# Altium footprint library BrushlessDriver.PcbLib: 24 footprints (part 1 of 2)
Each footprint in its own frame and in the unit in brackets; x right, y up, seen from the top. Pads: shape width x height; smd on the part's side, far side on the other; paste and mask are expansions set on the pad; w line width, h text height; cw(c..) or ccw(c..) is an arc to the next point about the centre after c.
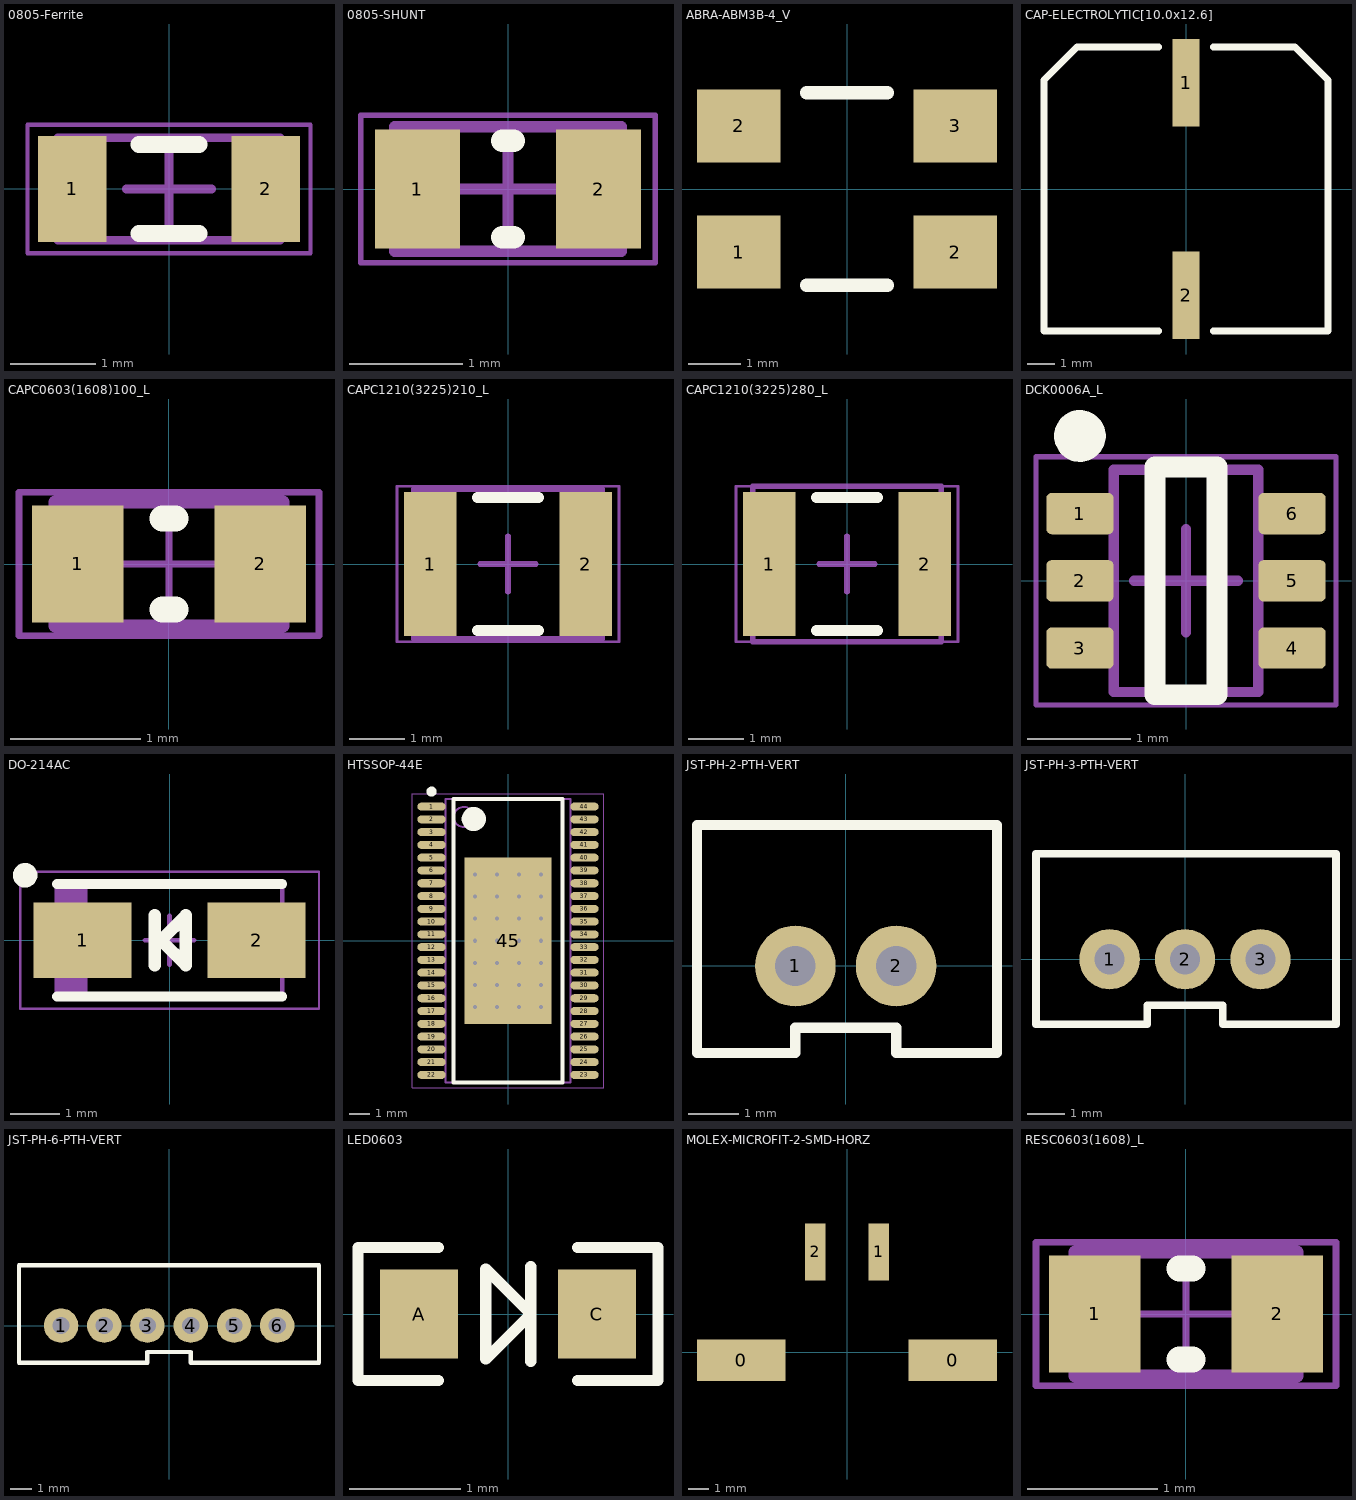
[diagram p0: the footprints below, top view; thin cyan lines are the x and y axes]

## 0805-Ferrite [mm] "Chip Inductor, 2-Leads, Body 2.60x1.20mm, IPC High Density"
height 0.6
pads (2):
  rect 0.8x1.24 smd: 1(-1.13,0) 2(1.13,0)
Top Overlay:
  lines w0.2: -0.35,-0.52 0.35,-0.52 ; -0.35,0.52 0.35,0.52
Mechanical 13:
  lines w0.1: -1.3,-0.6 -1.3,0.6 1.3,0.6 1.3,-0.6 -1.3,-0.6
Mechanical 15:
  lines w0.05: -1.65,-0.75 -1.65,0.75 1.65,0.75 1.65,-0.75 -1.65,-0.75
  lines w0.1: -0.5,0 0.5,0 ; 0,-0.5 0,0.5
3D body "INDC2612X06L.step": height 0.6, standoff 0, extent -1.3,-0.6 1.3,0.6

## 0805-SHUNT [mm] "Chip Resistor, 2-Leads, Body 2.00x1.10mm, IPC High Density"
height 0.32
pads (2):
  rect 0.75x1.05 smd: 1(-0.8,0) 2(0.8,0)
Top Overlay:
  lines w0.2: -0.05,-0.425 0.05,-0.425 ; -0.05,0.425 0.05,0.425
Mechanical 13:
  lines w0.1: -1,-0.55 1,-0.55 1,0.55 -1,0.55 -1,-0.55
Mechanical 15:
  lines w0.05: -1.3,-0.65 1.3,-0.65 1.3,0.65 -1.3,0.65 -1.3,-0.65
  lines w0.1: -0.5,0 0.5,0 ; 0,-0.5 0,0.5
3D body "RESC2011X03L.step": height 0.32, standoff 0, extent -1,-0.55 1,0.55

## ABRA-ABM3B-4_V [mil] "SMT Crystal, 4-Leads, Body 5.2x3.4mm"
pads (4):
  rect 63x55 smd: 1(-81.5,-47.5) 2(-81.5,47.5) 2(81.5,-47.5) 3(81.5,47.5)
Top Overlay:
  lines w10: -30.5,-72.5 30.5,-72.5 ; -30.5,72.5 30.5,72.5
3D body: height 39.37, standoff 0, extent -114.46,-46.87 113.11,46.73
3D body: height 19.68, standoff 0, extent -97.83,24.91 -62.28,51.12
3D body: height 19.68, standoff 0, extent 67.17,24.91 102.72,51.12
3D body: height 19.68, standoff 0, extent -103.01,-51.67 -67.46,-25.46
3D body: height 19.68, standoff 0, extent 62.19,-52.22 97.74,-26.01

## CAP-ELECTROLYTIC[10.0x12.6] [mm]
pads (2):
  rect 1x3.2 smd: 1(0,3.9) 2(0,-3.9)
Top Overlay:
  lines w0.254: -1,-5.2 -5.2,-5.2 -5.2,4 -4,5.2 -1,5.2 ; 1,-5.2 5.2,-5.2 5.2,4 4,5.2 1,5.2
3D body "NICHICON_UWT1H221MNL1GS.STEP": height 10.2, standoff 0, extent -5.2,-5.451 5.1,5.449

## CAPC0603(1608)100_L [mm] "Chip Capacitor, Body 1.6x0.8mm, Height 1.0mm, IPC High Density"
height 1
pads (2):
  rect 0.7x0.9 smd: 1(-0.7,0) 2(0.7,0)
Top Overlay:
  lines w0.2: -0.05,-0.35 0.05,-0.35 ; -0.05,0.35 0.05,0.35
Mechanical 13:
  lines w0.1: -0.875,-0.475 -0.875,0.475 0.875,0.475 0.875,-0.475 -0.875,-0.475
Mechanical 15:
  lines w0.05: -0.475,0 0.475,0 ; 0,-0.475 0,0.475 ; -1.15,-0.55 -1.15,0.55 1.15,0.55 1.15,-0.55 -1.15,-0.55
3D body: height 1, standoff 0, extent -0.525,-0.475 0.525,0.475
3D body: height 1, standoff 0, extent -0.875,-0.475 -0.525,0.475
3D body: height 1, standoff 0, extent 0.525,-0.475 0.875,0.475

## CAPC1210(3225)210_L [mm] "Chip Capacitor, Body 3.2x2.5mm, Height 2.1mm, IPC High Density"
height 2.1
pads (2):
  rect 0.95x2.6 smd: 1(-1.4,0) 2(1.4,0)
Top Overlay:
  lines w0.2: -0.55,-1.2 0.55,-1.2 ; -0.55,1.2 0.55,1.2
Mechanical 13:
  lines w0.1: -1.7,-1.35 1.7,-1.35 1.7,1.35 -1.7,1.35 -1.7,-1.35
Mechanical 15:
  lines w0.05: -2,-1.4 2,-1.4 2,1.4 -2,1.4 -2,-1.4
  lines w0.1: -0.5,0 0.5,0 ; 0,-0.5 0,0.5
3D body: height 2.1, standoff 0, extent 1.2,-1.35 1.7,1.35
3D body: height 2.1, standoff 0, extent -1.7,-1.35 -1.2,1.35
3D body: height 2.1, standoff 0, extent -1.2,-1.35 1.2,1.35

## CAPC1210(3225)280_L [mm] "Chip Capacitor, Body 3.2x2.5mm, Height 2.8mm, IPC High Density"
height 2.8
pads (2):
  rect 0.95x2.6 smd: 1(-1.4,0) 2(1.4,0)
Top Overlay:
  lines w0.2: -0.55,-1.2 0.55,-1.2 ; -0.55,1.2 0.55,1.2
Mechanical 13:
  lines w0.1: -1.7,-1.4 1.7,-1.4 1.7,1.4 -1.7,1.4 -1.7,-1.4
Mechanical 15:
  lines w0.05: -2,-1.4 2,-1.4 2,1.4 -2,1.4 -2,-1.4
  lines w0.1: -0.5,0 0.5,0 ; 0,-0.5 0,0.5
3D body: height 2.8, standoff 0, extent 1.2,-1.4 1.7,1.4
3D body: height 2.8, standoff 0, extent -1.7,-1.4 -1.2,1.4
3D body: height 2.8, standoff 0, extent -1.2,-1.4 1.2,1.4

## DCK0006A_L [mm] "SOT23, 6-Leads, Body 2.15x1.4mm, Pitch 0.65mm, IPC High Density"
height 1.1
pads (6):
  rrect25% 0.65x0.4 smd: 1(-1.025,0.65) 2(-1.025,0) 3(-1.025,-0.65) 4(1.025,-0.65) 5(1.025,0) 6(1.025,0.65)
Top Overlay:
  circle w0.25: c-1.025,1.4 r0.125
  lines w0.2: -0.3,-1.1 0.3,-1.1 0.3,1.1 -0.3,1.1 -0.3,-1.1
Mechanical 1:
  text ".Designator" at -0.635,-0.127 h0.51
Mechanical 13:
  lines w0.1: -0.7,-1.075 -0.7,1.075 0.7,1.075 0.7,-1.075 -0.7,-1.075
Mechanical 15:
  lines w0.05: -1.45,-1.2 -1.45,1.2 1.45,1.2 1.45,-1.2 -1.45,-1.2
  lines w0.1: -0.5,0 0.5,0 ; 0,-0.5 0,0.5
3D body "DCK0006AakaMAA06.stp": height 0.94, standoff -0.01, extent -1.14,-1 1.14,1

## DO-214AC [mm] "Molded Diode, 2-Leads, Body 4.30x2.15mm, IPC Medium Density"
height 2.3
pads (2):
  rect 2x1.55 smd: 1(-1.778,0) 2(1.778,0)
Top Overlay:
  circle w0.25: c-2.95,1.325 r0.125
  lines w0.2: -2.3,-1.15 2.3,-1.15 ; -2.3,1.15 2.3,1.15
  lines w0.254: -0.305,-0.508 -0.305,0.508 ; -0.178,0 0.33,0.508 0.33,-0.508 -0.178,0
Mechanical 13:
  rectangle: -2.3,-1.145 -1.681,1.145
  lines w0.1: -2.3,-1.145 -2.3,1.145 2.3,1.145 2.3,-1.145 -2.3,-1.145
Mechanical 15:
  lines w0.05: -3.05,-1.4 -3.05,1.4 3.05,1.4 3.05,-1.4 -3.05,-1.4
  lines w0.1: -0.5,0 0.5,0 ; 0,-0.5 0,0.5
3D body "DIOM4321X23N.step": height 2.3, standoff 0, extent -2.52,-1.145 2.52,1.145

## HTSSOP-44E [mm] "TSOP, 44-Leads, Body 14.00x6.10mm, Pitch 0.64mm, Thermal Pad 8.26x4.31mm, IPC Medium Density"
height 1.2
pads (45):
  oval 1.4x0.4 smd: 1(-3.8,6.667) 2(-3.8,6.032) 3(-3.8,5.397) 4(-3.8,4.763) 5(-3.8,4.127) 6(-3.8,3.492) 7(-3.8,2.857) 8(-3.8,2.222) 9(-3.8,1.587) 10(-3.8,0.953) 11(-3.8,0.318) 12(-3.8,-0.318) 13(-3.8,-0.953) 14(-3.8,-1.587) 15(-3.8,-2.222) 16(-3.8,-2.857) 17(-3.8,-3.492) 18(-3.8,-4.127) 19(-3.8,-4.763) 20(-3.8,-5.397) 21(-3.8,-6.032) 22(-3.8,-6.667) 23(3.8,-6.667) 24(3.8,-6.032) 25(3.8,-5.397) 26(3.8,-4.763) 27(3.8,-4.127) 28(3.8,-3.492) 29(3.8,-2.857) 30(3.8,-2.222) 31(3.8,-1.587) 32(3.8,-0.953) 33(3.8,-0.318) 34(3.8,0.318) 35(3.8,0.953) 36(3.8,1.587) 37(3.8,2.222) 38(3.8,2.857) 39(3.8,3.492) 40(3.8,4.127) 41(3.8,4.763) 42(3.8,5.397) 43(3.8,6.032) 44(3.8,6.667)
  rect 4.31x8.26 smd: 45(0,0)
via 1.65,-3.3 diameter 0.5 hole 0.2
via 0.55,-3.3 diameter 0.5 hole 0.2
via -0.55,-3.3 diameter 0.5 hole 0.2
via -1.65,-3.3 diameter 0.5 hole 0.2
via 1.65,-2.2 diameter 0.5 hole 0.2
via 0.55,-2.2 diameter 0.5 hole 0.2
via -0.55,-2.2 diameter 0.5 hole 0.2
via -1.65,-2.2 diameter 0.5 hole 0.2
via 1.65,-1.1 diameter 0.5 hole 0.2
via 0.55,-1.1 diameter 0.5 hole 0.2
via -0.55,-1.1 diameter 0.5 hole 0.2
via -1.65,-1.1 diameter 0.5 hole 0.2
via 1.65,0 diameter 0.5 hole 0.2
via 0.55,0 diameter 0.5 hole 0.2
via -0.55,0 diameter 0.5 hole 0.2
via -1.65,0 diameter 0.5 hole 0.2
via 1.65,1.1 diameter 0.5 hole 0.2
via 0.55,1.1 diameter 0.5 hole 0.2
via -0.55,1.1 diameter 0.5 hole 0.2
via -1.65,1.1 diameter 0.5 hole 0.2
via 1.65,2.2 diameter 0.5 hole 0.2
via 0.55,2.2 diameter 0.5 hole 0.2
via -0.55,2.2 diameter 0.5 hole 0.2
via -1.65,2.2 diameter 0.5 hole 0.2
via 1.65,3.3 diameter 0.5 hole 0.2
via 0.55,3.3 diameter 0.5 hole 0.2
via -0.55,3.3 diameter 0.5 hole 0.2
via -1.65,3.3 diameter 0.5 hole 0.2
Top Overlay:
  circle w0.6: c-1.7,6.05 r0.3
  circle w0.25: c-3.8,7.418 r0.125
  lines w0.2: -2.7,-7.05 2.7,-7.05 2.7,7.05 -2.7,7.05 -2.7,-7.05
Mechanical 13:
  circle w0.1: c-2.2,6.15 r0.5
  lines w0.1: -3.1,-7.05 3.1,-7.05 3.1,7.05 -3.1,7.05 -3.1,-7.05
Mechanical 15:
  lines w0.05: -4.75,-7.3 4.75,-7.3 4.75,7.3 -4.75,7.3 -4.75,-7.3
  lines w0.1: -0.5,0 0.5,0 ; 0,-0.5 0,0.5
3D body "TSOP64P810X120_HS-45N.step": height 1.2, standoff 0, extent -4.05,-7.05 4.05,7.05

## JST-PH-2-PTH-VERT [mm]
pads (2):
  round 1.6 hole 0.8: 1(-1,0) 2(1,0)
Top Overlay:
  lines w0.203: -2.95,-1.723 -2.95,2.794 3,2.794 3,-1.723 1,-1.723 1,-1.223 -1,-1.223 -1,-1.723 -2.95,-1.723
3D body "B2B-PH-K-S.STEP": height 6, standoff -3.4, extent -2.95,-1.7 2.95,2.8

## JST-PH-3-PTH-VERT [mil]
pads (3):
  round 63 hole 31.5: 1(-78.74,0) 2(0,0) 3(78.74,0)
Top Overlay:
  lines w7.99: -155.51,-67.84 -39.37,-67.84
  lines w8: -155.51,-67.84 -155.51,110 157.48,110 157.48,-67.84 39.37,-67.84 39.37,-48.16 -39.37,-48.16 -39.37,-67.84
3D body "B3B-PH-K-S.STEP": height 236.22, standoff -133.86, extent -154.52,-66.92 156.5,110.24

## JST-PH-6-PTH-VERT [mil]
pads (6):
  round 63 hole 31.5: 1(-196.85,0) 2(-118.11,0) 3(-39.37,0) 4(39.63,0) 5(118.63,0) 6(197.37,0)
Top Overlay:
  lines w7.87: -273.62,-67.84 -39.37,-67.84 ; 40,-67.84 273.62,-67.84
  lines w8: -273.62,-67.84 -273.62,110 271.65,110 ; -39.37,-67.84 -39.37,-48.16 40,-48.16 40,-67.84 ; 273.62,-67.84 273.62,110
3D body "B6B-PH-K-S.STEP": height 236.22, standoff -133.86, extent -273.62,-66.93 273.62,110.24

## LED0603 [mm]
pads (2):
  rect 0.7x0.8 smd: A(-0.8,0) C(0.8,0)
Top Overlay:
  lines w0.1: -0.625,-0.6 -1.35,-0.6 -1.35,0.6 -0.625,0.6 ; -0.2,-0.405 0.205,0 -0.2,0.405 ; -0.2,-0.4 -0.2,0.4 ; 0.205,-0.425 0.205,0.425 ; 0.625,-0.6 1.35,-0.6 1.35,0.6 0.625,0.6
3D body "LED 0603 APT1608 WHITE.STEP": height 0.75, standoff 0, extent -0.8,-0.4 0.8,0.4

## MOLEX-MICROFIT-2-SMD-HORZ [mm] "Micro-Fit 3.0™ Right Angle Header, 3.00mm Pitch, Single Row, 2 Circuits, with Solder Tab, Tin, Glow Wire Capable, Black"
pads (4):
  rect 4.25x2 smd: 0(-5.08,-0.381) 0(5.08,-0.381)
  rect 1x2.75 smd: 1(1.524,4.826) 2(-1.524,4.826)
3D body "436500212.stp": height 5.64, standoff -0.04, extent -6.792,-4.989 6.858,5.751

## RESC0603(1608)_L [mm] "Chip Resistor, Body 1.6x0.8mm, IPC High Density"
height 0.6
pads (2):
  rect 0.7x0.9 smd: 1(-0.7,0) 2(0.7,0)
Top Overlay:
  lines w0.2: -0.05,-0.35 0.05,-0.35 ; -0.05,0.35 0.05,0.35
Mechanical 13:
  lines w0.1: -0.85,-0.475 0.85,-0.475 0.85,0.475 -0.85,0.475 -0.85,-0.475
Mechanical 15:
  lines w0.05: -0.475,0 0.475,0 ; 0,-0.475 0,0.475 ; -1.15,-0.55 1.15,-0.55 1.15,0.55 -1.15,0.55 -1.15,-0.55
3D body: height 0.6, standoff 0, extent -0.849,-0.474 -0.58,0.475
3D body: height 0.6, standoff 0, extent -0.58,-0.474 0.581,0.475
3D body: height 0.6, standoff 0, extent 0.581,-0.474 0.85,0.475